# EAGLE library part 87438-11 (library miifitjr2)
Wire-to-Board 1.50mm (.059") Pitch Header - Right Angle, SMT, Shrouded Source: http://www.molex.com/product/micro/87438.html
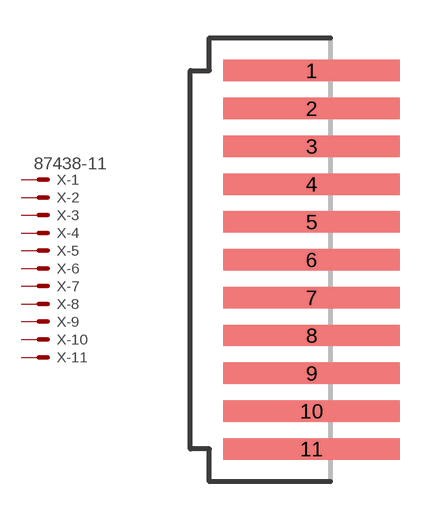
[diagram p226: symbol with the pads of 87438-11; footprint 87438-11]

Designator prefix X; gates -1=MV -2=M -3=M -4=M -5=M -6=M -7=M -8=M -9=M -10=M -11=M

## 87438-11 (MF: MOLEX; MPN: 87438-1142; OC_FARNELL: unknown; OC_NEWARK: 94M1098)  [87438-11]
1  -1:S  pas
2  -2:S  pas
3  -3:S  pas
4  -4:S  pas
5  -5:S  pas
6  -6:S  pas
7  -7:S  pas
8  -8:S  pas
9  -9:S  pas
10  -10:S  pas
11  -11:S  pas

## Footprint 87438-11 (pad centres in mm)
1.50mm Pitch Pico-SPOX™ Wire-to-Board Header, Surface Mount, Right Angle, Shrouded, Nylon, 11 Circuits, Embossed Tape on Reel, Beige Datasheet <http://www.molex.com/pdm_docs/sd/874381143_sd.pdf>
smd 7 x 0.85: 1 0,7.5; 2 0,6; 3 0,4.5; 4 0,3; 5 0,1.5; 6 0,0; 7 0,-1.5; 8 0,-3; 9 0,-4.5; 10 0,-6; 11 0,-7.5